# Altium schematic symbol library Resistors_SMD_IPC-SM-782.SchLib: 19 symbols
Pins are listed as number, name and electrical type; pins without a type are passive.

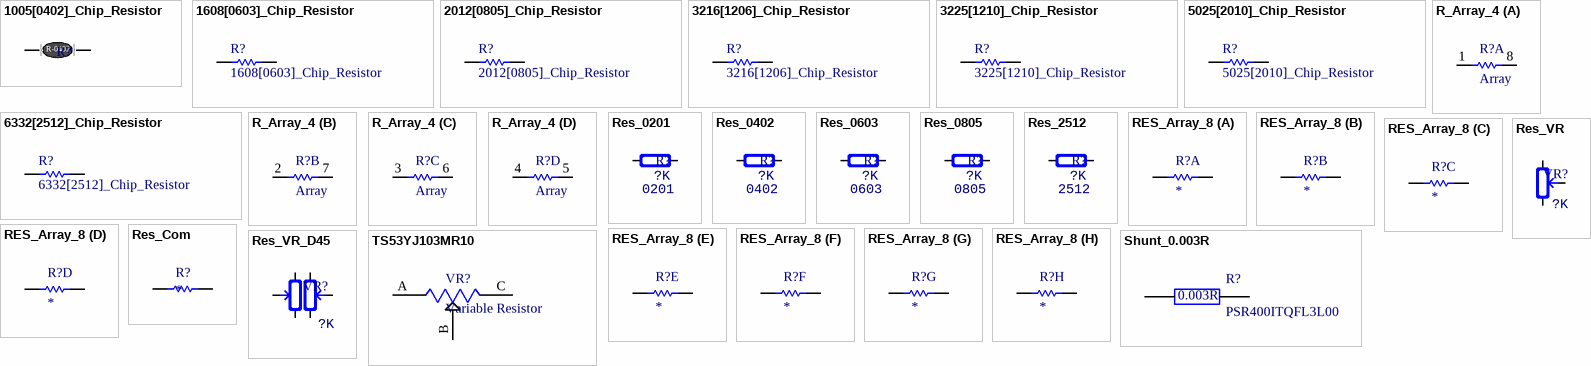
[diagram p0: symbols 1005[0402]_Chip_Resistor to TS53YJ103MR10]

## 1005[0402]_Chip_Resistor
designator R?  (value not drawn)
Thick Film Chip Resistor, 0402 Size; Company: HiberXen Electronics; Designer: Shahrear Mahmud; Email: Shahrear@hiberxen.com; ComponentLink1Description: Manufacturer Link; ComponentLink5URL: https://datasheet.ciiva.com/3255/dcrcwe3-3255945.pdf; ComponentLink5Description: https://datasheet.ciiva.com/3255/dcrcwe3-3255945.pdf; ComponentLink7URL: https://datasheet.ciiva.com/7841/1720486-7841802.pdf; ComponentLink7Description: https://datasheet.ciiva.com/7841/1720486-7841802.pdf; ComponentLink9URL: https://datasheet.ciiva.com/2461/dcrcwe3-2461964.pdf; ComponentLink9Description: https://datasheet.ciiva.com/2461/dcrcwe3-2461964.pdf
footprint 1005[0402] (Chip Resistor; Body 1.1 x 0.5 mm (LxW typ))
footprint 0402
footprint 0402G (GEO case)
footprint 0402 Negro (Chip Resistor, Empaque 0402)
footprint 0403 Azul (Chip Resistor, Empaque 0403)
footprint RES 0402/1005 RF (Chip Resistor, 2-Leads, Body 1.0x0.5mm, IPC High Density)
footprint RES 0402/1005 (Chip Resistor, 2-Leads, Body 1.0x0.5mm, IPC Medium Density)
pins: 1, 2
text: R-0402

## 1608[0603]_Chip_Resistor
designator R?
Thick Film Chip Resistor, 0603 Size; Note: If flow soldering, adjust pad width of PCB Footprint to 0.7 - 0.8 times the width of the resistor.; LatestReviewer: Fenrrich; Published: 28-08-2017; LatestRevisionDate: 28-08-2017; LatestRevisionNote: Silkscreen size reduced.; PackageReference: 0603; Publisher: CIATEQ; Code_IPC: 1608 [0603]; ComponentLink1Description: Manufacturer Link; ComponentLink2Description: Datasheet; ComponentDescription: Thick Film Chip Resistor, 0603 Size
footprint 1608[0603] (Chip Resistor; Body 1.6 x 0.8 mm (LxW typ))
pins: 1, 2

## 2012[0805]_Chip_Resistor
designator R?
Thick Film Chip Resistor, 0805 Size; Note: If flow soldering, adjust pad width of PCB Footprint to 0.7 - 0.8 times the width of the resistor.; LatestReviewer: Fenrrich; Published: 28-08-2017; LatestRevisionDate: 28-08-2017; LatestRevisionNote: Silkscreen size reduced.; PackageReference: 0805; Publisher: CIATEQ; Code_IPC: 2012[0805]; ComponentLink1Description: Manufacturer Link; ComponentLink2Description: Datasheet; ComponentDescription: Thick Film Chip Resistor, 0805 Size
footprint 2012[0805] (Chip Resistor; Body 2.0 x 1.3 mm (LxW typ))
pins: 1, 2

## 3216[1206]_Chip_Resistor
designator R?
Thick Film Chip Resistor, 1206 Size; Note: If flow soldering, adjust pad width of PCB Footprint to 0.7 - 0.8 times the width of the resistor.; LatestReviewer: Fenrrich; Published: 28-08-2017; LatestRevisionDate: 28-08-2017; LatestRevisionNote: Silkscreen size reduced.; PackageReference: 1206; Publisher: CIATEQ; Code_IPC: 3216[1206]; ComponentLink1Description: Manufacturer Link; ComponentLink2Description: Datasheet; ComponentDescription: Thick Film Chip Resistor, 1206 Size
footprint 3216[1206] (Chip Resistor; Body 3.2 x 1.6 mm (LxW typ))
pins: 1, 2

## 3225[1210]_Chip_Resistor
designator R?
Thick Film Chip Resistor, 1210 Size; Note: If flow soldering, adjust pad width of PCB Footprint to 0.7 - 0.8 times the width of the resistor.; LatestReviewer: Fenrrich; Published: 28-08-2017; LatestRevisionDate: 28-08-2017; LatestRevisionNote: Silkscreen size reduced.; PackageReference: 1210; Publisher: CIATEQ; Code_IPC: 3225[1210]; ComponentLink1Description: Manufacturer Link; ComponentLink2Description: Datasheet; ComponentDescription: Thick Film Chip Resistor, 1210 Size
footprint 3225[1210] (Chip Resistor; Body 3.2 x 2.5 mm (LxW typ))
pins: 1, 2

## 5025[2010]_Chip_Resistor
designator R?
Thick Film Chip Resistor, 2010 Size; Note: If flow soldering, adjust pad width of PCB Footprint to 0.7 - 0.8 times the width of the resistor.; LatestReviewer: Fenrrich; Published: 28-08-2017; LatestRevisionDate: 28-08-2017; LatestRevisionNote: Silkscreen size reduced.; PackageReference: 2010; Publisher: CIATEQ; Code_IPC: 5025[2010]; ComponentLink1Description: Manufacturer Link; ComponentLink2Description: Datasheet; ComponentDescription: Thick Film Chip Resistor, 2010 Size
footprint 5025[2010] (Chip Resistor; Body 5.0 x 2.5 mm (LxW typ))
pins: 1, 2

## 6332[2512]_Chip_Resistor
designator R?
Thick Film Chip Resistor, 2512 Size; Note: If flow soldering, adjust pad width of PCB Footprint to 0.7 - 0.8 times the width of the resistor.; LatestReviewer: Fenrrich; Published: 28-08-2017; LatestRevisionDate: 28-08-2017; LatestRevisionNote: Silkscreen size reduced.; PackageReference: 2512; Publisher: CIATEQ; Code_IPC: 6332[2512]; ComponentLink1Description: Manufacturer Link; ComponentLink2Description: Datasheet; ComponentDescription: Thick Film Chip Resistor, 2512 Size
footprint 6332[2512] (Chip Resistor; Body 6.3 x 3.2 mm (LxW typ))
pins: 1, 2

## R_Array_4
designator R?, comment Array
footprint R---YC124
part A pins: 1, 8
part B pins: 2 1, 7
part C pins: 3, 6
part D pins: 4, 5

## Res_0201
designator R?, comment value ?K  Type: 0201  (hidden comment: R0201)
Resistor; Specification: ±5%; Manufacturer: *
footprint RES_0201
pins: 1, 2

## Res_0402
designator R?, comment value ?K  Type: 0402  (hidden comment: R0402)
Resistor; Specification: ±5%; Manufacturer: *
footprint RES_0402
pins: 1, 2

## Res_0603
designator R?, comment value ?K  Type: 0603  (hidden comment: R0603)
Resistor; Specification: ±5%; Manufacturer: *
footprint RES_0603
pins: 1, 2

## Res_0805
designator R?, comment value ?K  Type: 0805  (hidden comment: R0805)
Resistor; Specification: ±5%; Manufacturer: *
footprint RES_0805
pins: 1, 2

## Res_2512
designator R?, comment value ?K  Type: 2512  (hidden comment: R2512)
Resistor; Specification: ±5%; Manufacturer: *
footprint RES_2512
pins: 1, 2

## RES_Array_8
designator R?
footprint YC248
part A pins: 1, 16
part B pins: 2, 15
part C pins: 3, 14
part D pins: 4, 13
part E pins: 5, 12
part F pins: 6, 11
part G pins: 7, 10
part H pins: 8, 9

## Res_Com
designator R?
footprint 1K Ohm (RESISTENCIA DE 1/4 W DE 1K OHM)
pins: 1, 2

## Res_VR
designator VR?, comment value ?K  (hidden comment: VR)
Resistor Variable; Specification: ±5%; Manufacturer: *
footprint RES_VR_Gear
pins: 1, 2, 3

## Res_VR_D45
designator VR?, comment value ?K  (hidden comment: VR)
Resistor Variable; Specification: ±5%; Manufacturer: *
footprint RES_VR_D45mm
pins: 1 U, 2 W, 3 U, 4 W, 5 D, 6 D

## Shunt_0.003R
designator R?, comment PSR400ITQFL3L00
ROHM - PSR400ITQFL3L00 - RES, METAL STRIP, 0.003OHM, 4W, 3921; Manufacturer_Name: ROHM Semiconductor; Geometry.Height: 2mm; Manufacturer_Part_Number: PSR400ITQFL3L00; RS Part Number: *; RS Price/Stock: *; Arrow Part Number: PSR400ITQFL3L00; Arrow Price/Stock: *; Datasheet Link: http://www.farnell.com/datasheets/1909337.pdf
footprint Shunt_0.003R
pins: 1, 2
text: 0.003R

## TS53YJ103MR10
designator VR?, comment Variable Resistor
footprint TS53YJ103MR10
pins: A, B, C